# EAGLE library part 28C256 (library pda)
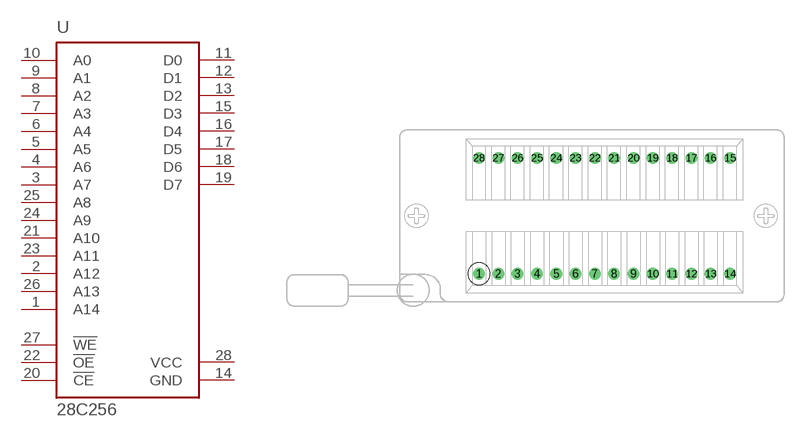
[diagram p4: symbol with the pads of ZIF28-6-WIDE; footprint ZIF28-6-WIDE]

Designator prefix U

## 28C256-ZIF  [ZIF28-6-WIDE]
1  A14  in
2  A12  in
3  A7  in
4  A6  in
5  A5  in
6  A4  in
7  A3  in
8  A2  in
9  A1  in
10  A0  in
11  D0  hiz
12  D1  hiz
13  D2  hiz
14  GND  pwr
15  D3  hiz
16  D4  hiz
17  D5  hiz
18  D6  hiz
19  D7  hiz
20  !CE  in
21  A10  in
22  !OE  in
23  A11  in
24  A9  in
25  A8  in
26  A13  in
27  !WE  in
28  VCC  pwr

## Footprint ZIF28-6-WIDE (pad centres in mm)
drill 1.016: 1 -8.89,-6.35; 2 -6.35,-6.35; 3 -3.81,-6.35; 4 -1.27,-6.35; 5 1.27,-6.35; 6 3.81,-6.35; 7 6.35,-6.35; 8 8.89,-6.35; 9 11.43,-6.35; 10 13.97,-6.35; 11 16.51,-6.35; 12 19.05,-6.35; 13 21.59,-6.35; 14 24.13,-6.35; 15 24.13,8.89; 16 21.59,8.89; 17 19.05,8.89; 18 16.51,8.89; 19 13.97,8.89; 20 11.43,8.89; 21 8.89,8.89; 22 6.35,8.89; 23 3.81,8.89; 24 1.27,8.89; 25 -1.27,8.89; 26 -3.81,8.89; 27 -6.35,8.89; 28 -8.89,8.89